# Altium schematic symbol library SW_BTN.SchLib: 5 symbols
Pins are listed as number, name and electrical type; pins without a type are passive.

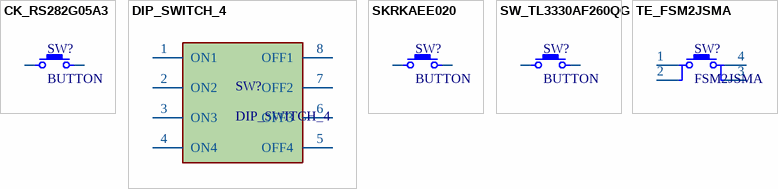
[diagram p0: symbols CK_RS282G05A3 to TE_FSM2JSMA]

## CK_RS282G05A3
designator SW?, comment BUTTON
Push button 2pin SMD CK_RS282G05A3
footprint PUSH_BUTTON_SMD_CK_RS282G05A3
pins: 1 (power), 2 (power)

## DIP_SWITCH_4
designator SW?
DIP Switch 4
footprint DIP_Switch_SPSTx04_SMD
pins: 1 ON1 (power), 2 ON2 (power), 3 ON3 (power), 4 ON4 (power), 5 OFF4 (power), 6 OFF3 (power), 7 OFF2 (power), 8 OFF1 (power)

## SKRKAEE020
designator SW?, comment BUTTON
Push button 2pin SMD SKRKAEE020
footprint PUSH_BUTTON_SMD_SKRKAEE020
pins: 1 (power), 2 (power)

## SW_TL3330AF260QG
designator SW?, comment BUTTON
Push button 2pin SMD SW_TL3330AF260QG
footprint SW_TL3330AF260QG
pins: 1 (power), 2 (power)

## TE_FSM2JSMA
designator SW?, comment FSM2JSMA
Push button 2pin SMD FSM2JSMA
footprint SW_TE_FSM2JSMA
pins: 1 (power), 2 (power), 3 (power), 4 (power)